# Altium footprint library SM_TCO_RTS.PcbLib: 1 footprints
Each footprint in its own frame and in the unit in brackets; x right, y up, seen from the top. Pads: shape width x height; smd on the part's side, far side on the other; paste and mask are expansions set on the pad; w line width, h text height; cw(c..) or ccw(c..) is an arc to the next point about the centre after c.
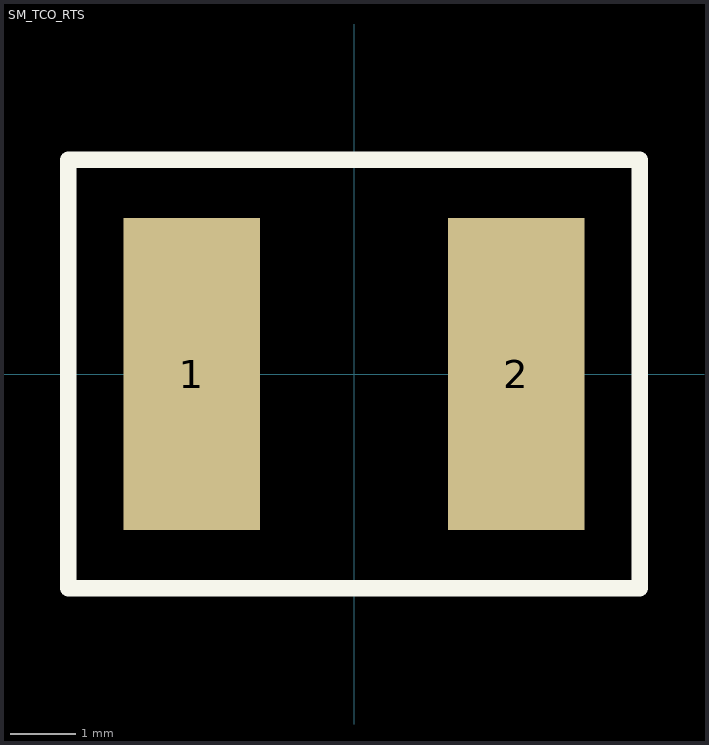
[diagram p0: the footprint, top view; thin cyan lines are the x and y axes]

## SM_TCO_RTS [mm]
height 6.7
pads (2):
  rect 2.1x4.8 smd: 1(-2.5,0) 2(2.5,0)
Top Overlay:
  lines w0.254: -4.4,-3.3 -4.4,3.3 4.4,3.3 4.4,-3.3 -4.4,-3.3
3D body "RTS-AC100_03.STEP": height 6.7, standoff 0, extent -4.407,-3.307 4.407,3.307